# Altium footprint library CMC 10mH.PcbLib: 1 footprints
Each footprint in its own frame and in the unit in brackets; x right, y up, seen from the top. Pads: shape width x height; smd on the part's side, far side on the other; paste and mask are expansions set on the pad; w line width, h text height; cw(c..) or ccw(c..) is an arc to the next point about the centre after c.
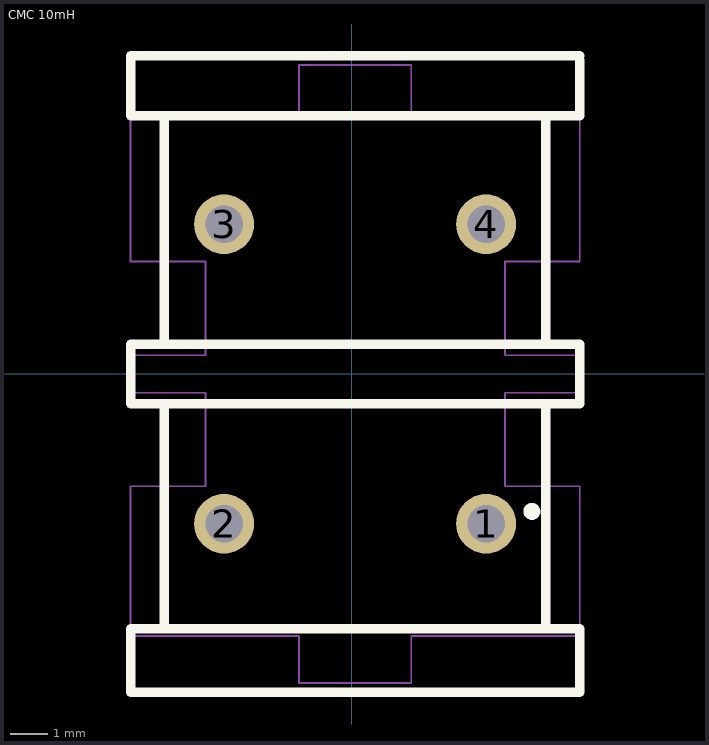
[diagram p0: the footprint, top view; thin cyan lines are the x and y axes]

## CMC 10mH [mm]
pads (4):
  round 1.6 hole 1 paste-2539.97 mask+0.051: 1(3.591,-4.009) 2(-3.409,-4.009) 3(-3.409,3.991) 4(3.591,3.991)
Top Overlay:
  circle w0.254: c4.811,-3.679 r0.1
  lines w0.254: -5.009,-6.809 -5.009,-0.809 ; -5.009,0.891 -5.009,6.891 ; 5.188,-6.806 5.188,-0.806 ; 5.189,0.892 5.189,6.892 ; 6.091,8.391 6.091,6.891 -5.909,6.891 -5.909,8.491 6.091,8.491 ; -5.909,-8.509 6.091,-8.509 6.091,-6.809 -5.909,-6.809 -5.909,-7.209 -5.909,-8.509 ; -5.909,-0.809 6.091,-0.809 6.091,0.791 -5.909,0.791 -5.909,-0.809
Mechanical 15:
  region: -5.849,-8.269 -5.849,-8.244 -5.884,-8.209 -5.934,-8.209 -5.969,-8.244 -5.969,-8.269 -5.969,-8.294 -5.934,-8.329 -5.884,-8.329 -5.849,-8.294 -5.849,-8.269
  region: -3.109,-4.009 -3.11,-3.95 -3.157,-3.842 -3.241,-3.76 -3.35,-3.715 -3.468,-3.715 -3.577,-3.76 -3.661,-3.842 -3.708,-3.95 -3.709,-4.009 -3.708,-4.068 -3.661,-4.177 -3.577,-4.259 -3.468,-4.304 -3.35,-4.304 -3.241,-4.259 -3.157,-4.177 -3.11,-4.068 -3.109,-4.009
  region: -3.109,3.992 -3.11,4.051 -3.157,4.159 -3.241,4.241 -3.35,4.286 -3.468,4.286 -3.577,4.241 -3.661,4.159 -3.708,4.051 -3.709,3.992 -3.708,3.933 -3.661,3.824 -3.577,3.742 -3.468,3.697 -3.35,3.697 -3.241,3.742 -3.157,3.824 -3.11,3.933 -3.109,3.992
  region: 3.891,3.992 3.89,4.051 3.843,4.159 3.759,4.241 3.65,4.286 3.532,4.286 3.423,4.241 3.339,4.159 3.292,4.051 3.291,3.992 3.292,3.933 3.339,3.824 3.423,3.742 3.532,3.697 3.65,3.697 3.759,3.742 3.843,3.824 3.89,3.933 3.891,3.992
  region: 3.891,-4.009 3.89,-3.95 3.843,-3.842 3.759,-3.76 3.65,-3.715 3.532,-3.715 3.423,-3.76 3.339,-3.842 3.292,-3.95 3.291,-4.009 3.292,-4.068 3.339,-4.177 3.423,-4.259 3.532,-4.304 3.65,-4.304 3.759,-4.259 3.843,-4.177 3.89,-4.068 3.891,-4.009
  lines w0.051: -5.909,-7.009 -1.409,-7.009 -1.409,-8.259 -1.409,-8.269 -1.399,-8.259 1.591,-8.259 1.591,-7.009 6.091,-7.009 6.091,-3.009 4.091,-3.009 4.091,-0.669 4.091,-0.509 6.091,-0.509 6.091,0.491 4.091,0.491 4.091,2.831 4.091,2.841 4.091,2.991 6.091,2.991 6.091,6.991 1.591,6.991 1.591,8.241 -1.409,8.241 -1.409,6.991 -5.909,6.991 -5.909,2.991 -3.909,2.991 -3.909,0.491 -5.909,0.491 -5.909,-0.509 -3.909,-0.509 -3.909,-3.009 -5.909,-3.009 -5.909,-7.009